# Altium schematic symbol library sumo.SchLib: 3 symbols
Pins are listed as number, name and electrical type; pins without a type are passive.

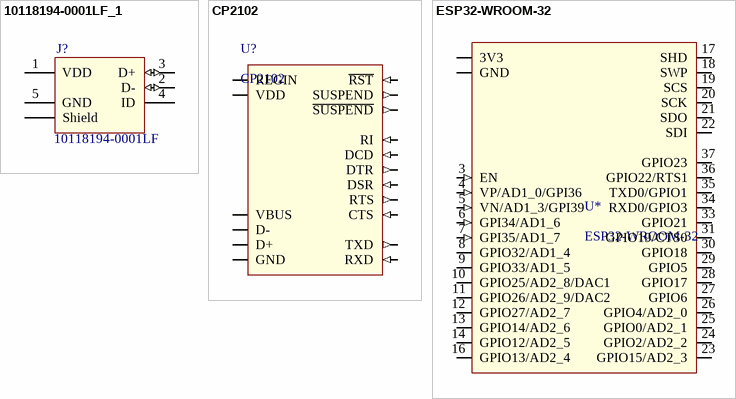
[diagram p0: symbols 10118194-0001LF_1 to ESP32-WROOM-32]

## 10118194-0001LF_1
designator J?, comment 10118194-0001LF
Conn Micro USB Type B RCP 5 POS 0.65mm Solder RA SMD 5 Terminal 1 Port T/R; MF: FCI; RS: 714-2347; Availability: Good; Price: 0.23 USD; MP: 10118194-0001LF; Package: DIP-4 FCI; Value: *
footprint 10103594-0001LF (Amphenol FCI Right Angle SMT Type B Version 2.0 Micro USB Connector Socket, 100 V ac, 1.8A)
pins: 1 VDD (power), 2 D- (io), 3 D+ (io), 4 ID, 5 GND (power), 6 Shield (power), 7 Shield (power), 8 Shield (power), 9 Shield (power)

## CP2102
designator U?
footprint QFN-28
pins: 1 DCD (in), 2 RI (in), 3 GND (power), 4 D+ (io), 5 D- (io), 6 VDD (power), 7 REGIN (power), 8 VBUS (power), 9 ~{RST} (in), 11 ~{SUSPEND} (out), 12 SUSPEND (out), 23 CTS (in), 24 RTS (out), 25 RXD (in), 26 TXD (out), 27 DSR (in), 28 DTR (out)

## ESP32-WROOM-32
designator U*
footprint ESP32-WROOM-32
pins: 1 GND (power), 2 3V3 (power), 3 EN (in), 4 VP/AD1_0/GPI36 (in), 5 VN/AD1_3/GPI39 (in), 6 GPI34/AD1_6 (in), 7 GPI35/AD1_7 (in), 8 GPIO32/AD1_4 (io), 9 GPIO33/AD1_5 (io), 10 GPIO25/AD2_8/DAC1 (io), 11 GPIO26/AD2_9/DAC2 (io), 12 GPIO27/AD2_7 (io), 13 GPIO14/AD2_6 (io), 14 GPIO12/AD2_5 (io), 15 GND (power), 16 GPIO13/AD2_4 (io), 17 SHD (io), 18 SWP (io), 19 SCS (io), 20 SCK (io), 21 SDO (io), 22 SDI (io), 23 GPIO15/AD2_3 (io), 24 GPIO2/AD2_2 (io), 25 GPIO0/AD2_1 (io), 26 GPIO4/AD2_0 (io), 27 GPIO6 (io), 28 GPIO17 (io), 29 GPIO5 (io), 30 GPIO18 (io), 31 GPIO19/CTS0 (io), 33 GPIO21 (io), 34 RXD0/GPIO3 (io), 35 TXD0/GPIO1 (io), 36 GPIO22/RTS1 (io), 37 GPIO23 (io), 38 GND (power), 39 GND (power)